# EAGLE library part ULN2803 (library misc)
SOP-18 Plastic-Encapsulate Transistors ULN2803 DARLINGTON TRANSISTOR (NPN)
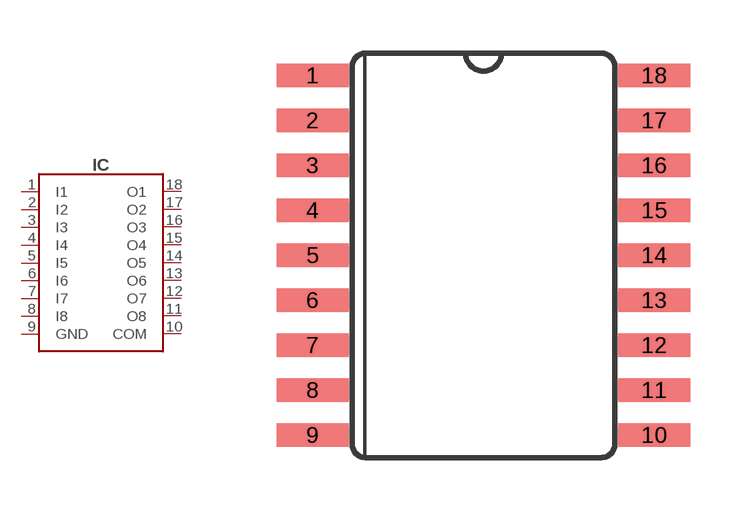
[diagram p104: symbol with the pads of SOIC18-300MIL; footprint SOIC18-300MIL]

Designator prefix IC

## ULN2803 (LCSC#: C2829421; MANF: JSCJ; MANF#: ULN2803)  [SOIC18-300MIL]
1  I1  in
2  I2  in
3  I3  in
4  I4  in
5  I5  in
6  I6  in
7  I7  in
8  I8  in
9  GND  pwr
10  COM  pas
11  O8  oc
12  O7  oc
13  O6  oc
14  O5  oc
15  O4  oc
16  O3  oc
17  O2  oc
18  O1  oc

## Footprint SOIC18-300MIL (pad centres in mm)
3D model <https://grabcad.com/library/soic-packages-1>
smd 2.032 x 0.66: 1 -4.823,5.08; 2 -4.823,3.81; 3 -4.823,2.54; 4 -4.823,1.27; 5 -4.823,0; 6 -4.823,-1.27; 7 -4.823,-2.54; 8 -4.823,-3.81; 9 -4.823,-5.08; 10 4.823,-5.08; 11 4.823,-3.81; 12 4.823,-2.54; 13 4.823,-1.27; 14 4.823,0; 15 4.823,1.27; 16 4.823,2.54; 17 4.823,3.81; 18 4.823,5.08